# Altium footprint library Connector_PinSocket_1.27mm.PcbLib: 246 footprints (part 9 of 16)
Each footprint in its own frame and in the unit in brackets; x right, y up, seen from the top. Pads: shape width x height; smd on the part's side, far side on the other; paste and mask are expansions set on the pad; w line width, h text height; cw(c..) or ccw(c..) is an arc to the next point about the centre after c.
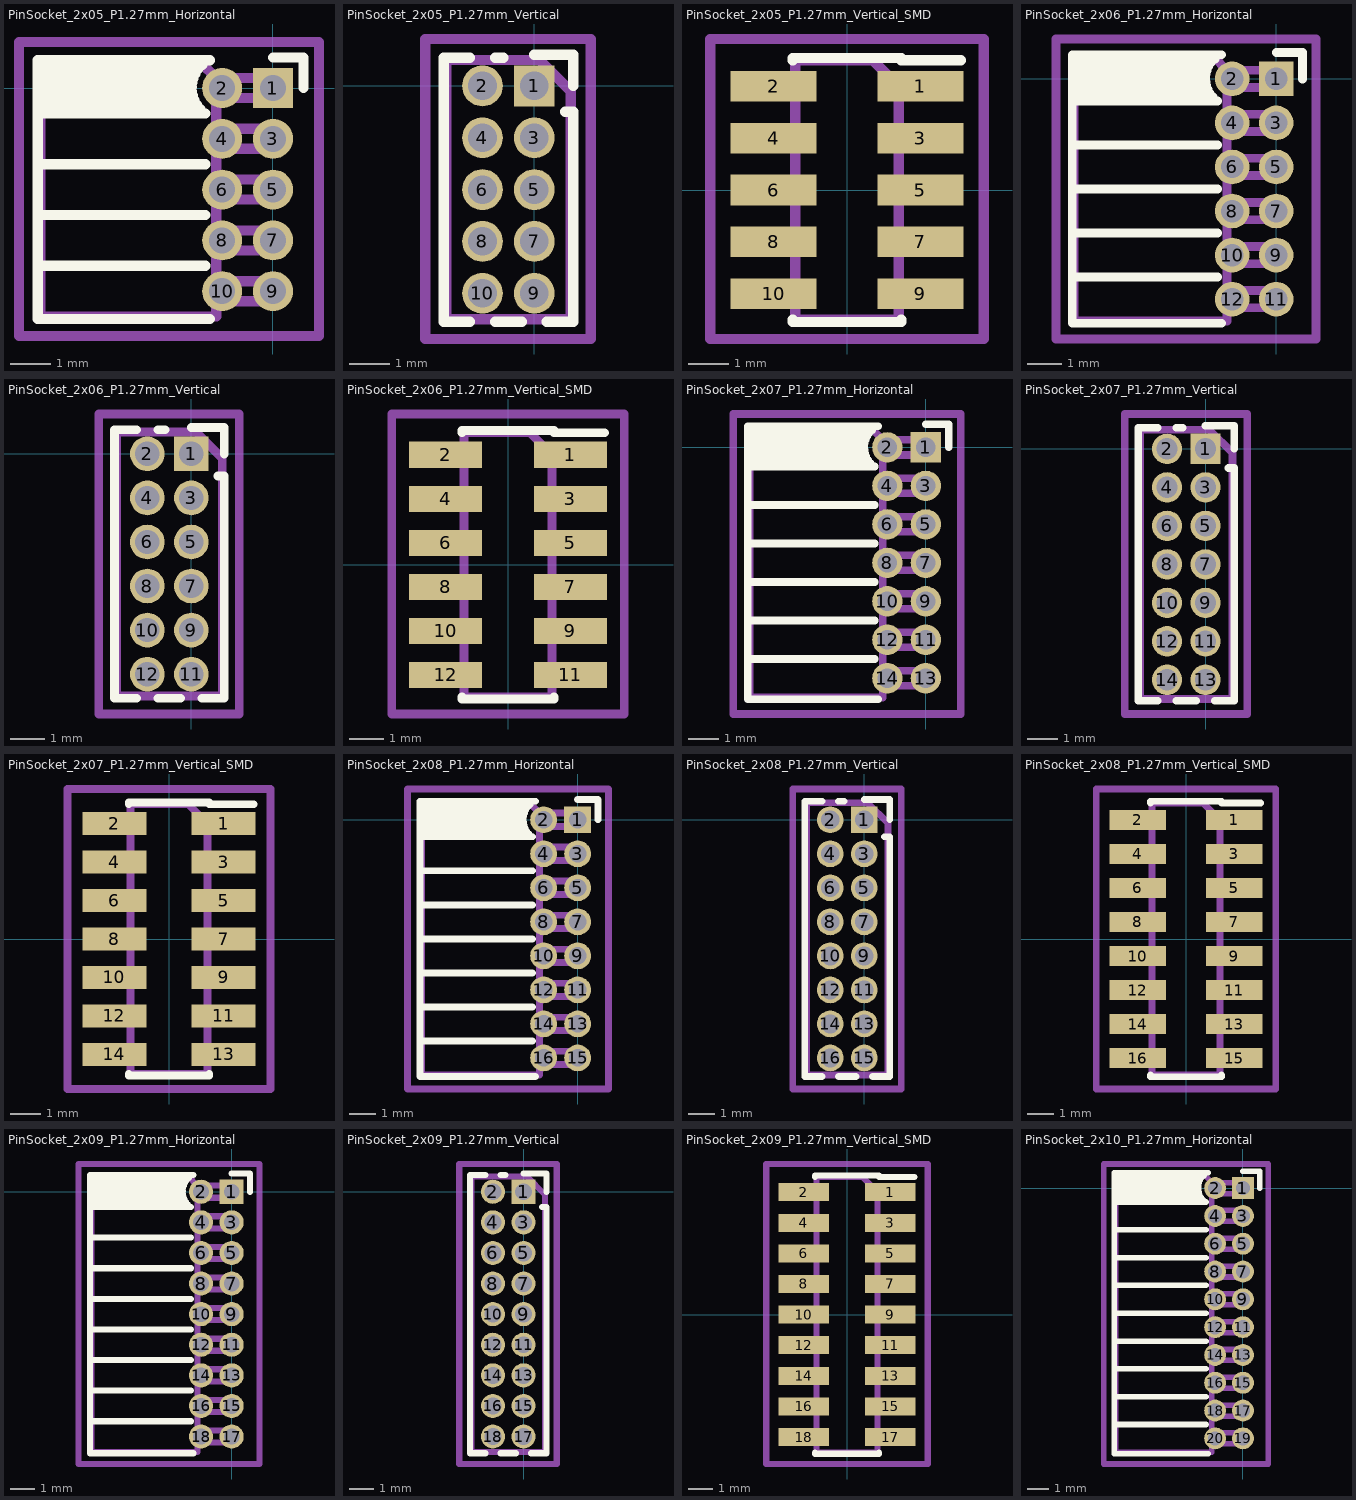
[diagram p8: the footprints below, top view; thin cyan lines are the x and y axes]

## PinSocket_2x05_P1.27mm_Horizontal [mm]
pads (10):
  rect 1x1 hole 0.65: 1(0,0)
  round 1 hole 0.65: 2(-1.27,0) 3(0,-1.27) 4(-1.27,-1.27) 5(0,-2.54) 6(-1.27,-2.54) 7(0,-3.81) 8(-1.27,-3.81) 9(0,-5.08) 10(-1.27,-5.08)
F.SilkS:
  lines w0.254: -5.88,-4.445 -1.688,-4.445 ; -5.88,-3.175 -1.688,-3.175 ; -5.88,-1.905 -1.688,-1.905 ; -5.88,-0.635 -1.688,-0.635 ; -5.88,-0.525 -1.82,-0.525 ; -5.88,-0.415 -1.907,-0.415 ; -5.88,-0.305 -1.966,-0.305 ; -5.88,-0.195 -2.005,-0.195 ; -5.88,-0.085 -2.025,-0.085 ; -5.88,0.025 -2.03,0.025 ; -5.88,0.135 -2.018,0.135 ; -5.88,0.245 -1.989,0.245 ; -5.88,0.355 -1.942,0.355 ; -5.88,0.465 -1.871,0.465 ; -5.88,0.575 -1.767,0.575 ; -1.578,-5.775 -5.88,-5.775 -5.88,0.695 -1.578,0.695 ; 0,0.76 0.76,0.76 0.76,0
Top Assembly:
  lines w0.254: -1.42,-5.33 0,-5.33 0,-4.83 -1.42,-4.83 ; -1.42,-4.06 0,-4.06 0,-3.56 -1.42,-3.56 ; -1.42,-2.79 0,-2.79 0,-2.29 -1.42,-2.29 ; -1.42,-1.52 0,-1.52 0,-1.02 -1.42,-1.02 ; -1.42,-0.25 0,-0.25 0,0.25 -1.42,0.25 ; -1.42,0.25 -1.42,-5.715 -5.82,-5.715 -5.82,0.635 -1.805,0.635 -1.42,0.25
  text "'.Designator'" at -2.78,-6.587 h1
Top Courtyard:
  lines w0.254: -6.35,-6.2 1.15,-6.2 1.15,1.15 -6.35,1.15 -6.35,-6.2
Top Designator:
  text ".Designator" at -10.218,-3.198 h1.52

## PinSocket_2x05_P1.27mm_Vertical [mm]
pads (10):
  rect 1x1 hole 0.7: 1(0,0)
  round 1 hole 0.7: 2(-1.27,0) 3(0,-1.27) 4(-1.27,-1.27) 5(0,-2.54) 6(-1.27,-2.54) 7(0,-3.81) 8(-1.27,-3.81) 9(0,-5.08) 10(-1.27,-5.08)
F.SilkS:
  lines w0.254: -1.578,-5.775 -2.22,-5.775 -2.22,0.695 -1.578,0.695 ; -0.962,-5.775 -0.308,-5.775 ; -0.962,0.695 -0.76,0.695 ; 0,0.76 0.95,0.76 0.95,0 ; 0.308,-5.775 0.95,-5.775 0.95,-0.635 0.76,-0.635
Top Assembly:
  lines w0.254: -2.16,-5.715 0.89,-5.715 0.89,-0.128 0.128,0.635 -2.16,0.635 -2.16,-5.715
  text "'.Designator'" at 0.205,-6.587 h1
Top Courtyard:
  lines w0.254: -2.67,-6.2 1.38,-6.2 1.38,1.15 -2.67,1.15 -2.67,-6.2
Top Designator:
  text ".Designator" at -8.263,-3.198 h1.52

## PinSocket_2x05_P1.27mm_Vertical_SMD [mm]
pads (10):
  rect 2.1x0.75 smd: 1(1.8,2.54) 2(-1.8,2.54) 3(1.8,1.27) 4(-1.8,1.27) 5(1.8,0) 6(-1.8,0) 7(1.8,-1.27) 8(-1.8,-1.27) 9(1.8,-2.54) 10(-1.8,-2.54)
F.SilkS:
  lines w0.254: -1.33,-3.175 -1.33,-3.235 1.33,-3.235 1.33,-3.175 ; -1.33,3.175 -1.33,3.235 1.33,3.235 1.33,3.175 2.79,3.175
Top Assembly:
  lines w0.254: -1.27,-2.74 -2.555,-2.74 -2.555,-2.34 -1.27,-2.34 ; -1.27,-1.47 -2.555,-1.47 -2.555,-1.07 -1.27,-1.07 ; -1.27,-0.2 -2.555,-0.2 -2.555,0.2 -1.27,0.2 ; -1.27,1.07 -2.555,1.07 -2.555,1.47 -1.27,1.47 ; -1.27,2.34 -2.555,2.34 -2.555,2.74 -1.27,2.74 ; 1.27,-2.74 2.555,-2.74 2.555,-2.34 1.27,-2.34 ; 1.27,-1.47 2.555,-1.47 2.555,-1.07 1.27,-1.07 ; 1.27,-0.2 2.555,-0.2 2.555,0.2 1.27,0.2 ; 1.27,1.07 2.555,1.07 2.555,1.47 1.27,1.47 ; 1.27,2.34 2.555,2.34 2.555,2.74 1.27,2.74 ; -1.27,-3.175 1.27,-3.175 1.27,2.54 0.635,3.175 -1.27,3.175 -1.27,-3.175
  text "'.Designator'" at 0.84,-4.047 h1
Top Courtyard:
  lines w0.254: -3.35,-3.65 3.35,-3.65 3.35,3.7 -3.35,3.7 -3.35,-3.65
Top Designator:
  text ".Designator" at -7.618,-0.658 h1.52

## PinSocket_2x06_P1.27mm_Horizontal [mm]
pads (12):
  rect 1x1 hole 0.65: 1(0,0)
  round 1 hole 0.65: 2(-1.27,0) 3(0,-1.27) 4(-1.27,-1.27) 5(0,-2.54) 6(-1.27,-2.54) 7(0,-3.81) 8(-1.27,-3.81) 9(0,-5.08) 10(-1.27,-5.08) 11(0,-6.35) 12(-1.27,-6.35)
F.SilkS:
  lines w0.254: -5.88,-5.715 -1.688,-5.715 ; -5.88,-4.445 -1.688,-4.445 ; -5.88,-3.175 -1.688,-3.175 ; -5.88,-1.905 -1.688,-1.905 ; -5.88,-0.635 -1.688,-0.635 ; -5.88,-0.525 -1.82,-0.525 ; -5.88,-0.415 -1.907,-0.415 ; -5.88,-0.305 -1.966,-0.305 ; -5.88,-0.195 -2.005,-0.195 ; -5.88,-0.085 -2.025,-0.085 ; -5.88,0.025 -2.03,0.025 ; -5.88,0.135 -2.018,0.135 ; -5.88,0.245 -1.989,0.245 ; -5.88,0.355 -1.942,0.355 ; -5.88,0.465 -1.871,0.465 ; -5.88,0.575 -1.767,0.575 ; -1.578,-7.045 -5.88,-7.045 -5.88,0.695 -1.578,0.695 ; 0,0.76 0.76,0.76 0.76,0
Top Assembly:
  lines w0.254: -1.42,-6.6 0,-6.6 0,-6.1 -1.42,-6.1 ; -1.42,-5.33 0,-5.33 0,-4.83 -1.42,-4.83 ; -1.42,-4.06 0,-4.06 0,-3.56 -1.42,-3.56 ; -1.42,-2.79 0,-2.79 0,-2.29 -1.42,-2.29 ; -1.42,-1.52 0,-1.52 0,-1.02 -1.42,-1.02 ; -1.42,-0.25 0,-0.25 0,0.25 -1.42,0.25 ; -1.42,0.25 -1.42,-6.985 -5.82,-6.985 -5.82,0.635 -1.805,0.635 -1.42,0.25
  text "'.Designator'" at -2.78,-7.222 h1
Top Courtyard:
  lines w0.254: -6.35,-7.5 1.15,-7.5 1.15,1.15 -6.35,1.15 -6.35,-7.5
Top Designator:
  text ".Designator" at -10.218,-3.683 h1.52

## PinSocket_2x06_P1.27mm_Vertical [mm]
pads (12):
  rect 1x1 hole 0.7: 1(0,0)
  round 1 hole 0.7: 2(-1.27,0) 3(0,-1.27) 4(-1.27,-1.27) 5(0,-2.54) 6(-1.27,-2.54) 7(0,-3.81) 8(-1.27,-3.81) 9(0,-5.08) 10(-1.27,-5.08) 11(0,-6.35) 12(-1.27,-6.35)
F.SilkS:
  lines w0.254: -1.578,-7.045 -2.22,-7.045 -2.22,0.695 -1.578,0.695 ; -0.962,-7.045 -0.308,-7.045 ; -0.962,0.695 -0.76,0.695 ; 0,0.76 0.95,0.76 0.95,0 ; 0.308,-7.045 0.95,-7.045 0.95,-0.635 0.76,-0.635
Top Assembly:
  lines w0.254: -2.16,-6.985 0.89,-6.985 0.89,-0.128 0.128,0.635 -2.16,0.635 -2.16,-6.985
  text "'.Designator'" at 0.205,-7.222 h1
Top Courtyard:
  lines w0.254: -2.67,-7.5 1.38,-7.5 1.38,1.15 -2.67,1.15 -2.67,-7.5
Top Designator:
  text ".Designator" at -8.263,-3.683 h1.52

## PinSocket_2x06_P1.27mm_Vertical_SMD [mm]
pads (12):
  rect 2.1x0.75 smd: 1(1.8,3.175) 2(-1.8,3.175) 3(1.8,1.905) 4(-1.8,1.905) 5(1.8,0.635) 6(-1.8,0.635) 7(1.8,-0.635) 8(-1.8,-0.635) 9(1.8,-1.905) 10(-1.8,-1.905) 11(1.8,-3.175) 12(-1.8,-3.175)
F.SilkS:
  lines w0.254: -1.33,-3.81 -1.33,-3.87 1.33,-3.87 1.33,-3.81 ; -1.33,3.81 -1.33,3.87 1.33,3.87 1.33,3.81 2.79,3.81
Top Assembly:
  lines w0.254: -1.27,-3.375 -2.555,-3.375 -2.555,-2.975 -1.27,-2.975 ; -1.27,-2.105 -2.555,-2.105 -2.555,-1.705 -1.27,-1.705 ; -1.27,-0.835 -2.555,-0.835 -2.555,-0.435 -1.27,-0.435 ; -1.27,0.435 -2.555,0.435 -2.555,0.835 -1.27,0.835 ; -1.27,1.705 -2.555,1.705 -2.555,2.105 -1.27,2.105 ; -1.27,2.975 -2.555,2.975 -2.555,3.375 -1.27,3.375 ; 1.27,-3.375 2.555,-3.375 2.555,-2.975 1.27,-2.975 ; 1.27,-2.105 2.555,-2.105 2.555,-1.705 1.27,-1.705 ; 1.27,-0.835 2.555,-0.835 2.555,-0.435 1.27,-0.435 ; 1.27,0.435 2.555,0.435 2.555,0.835 1.27,0.835 ; 1.27,1.705 2.555,1.705 2.555,2.105 1.27,2.105 ; 1.27,2.975 2.555,2.975 2.555,3.375 1.27,3.375 ; -1.27,-3.81 1.27,-3.81 1.27,3.175 0.635,3.81 -1.27,3.81 -1.27,-3.81
  text "'.Designator'" at 0.84,-4.047 h1
Top Courtyard:
  lines w0.254: -3.35,-4.3 3.35,-4.3 3.35,4.35 -3.35,4.35 -3.35,-4.3
Top Designator:
  text ".Designator" at -7.618,-0.483 h1.52

## PinSocket_2x07_P1.27mm_Horizontal [mm]
pads (14):
  rect 1x1 hole 0.65: 1(0,0)
  round 1 hole 0.65: 2(-1.27,0) 3(0,-1.27) 4(-1.27,-1.27) 5(0,-2.54) 6(-1.27,-2.54) 7(0,-3.81) 8(-1.27,-3.81) 9(0,-5.08) 10(-1.27,-5.08) 11(0,-6.35) 12(-1.27,-6.35) 13(0,-7.62) 14(-1.27,-7.62)
F.SilkS:
  lines w0.254: -5.88,-6.985 -1.688,-6.985 ; -5.88,-5.715 -1.688,-5.715 ; -5.88,-4.445 -1.688,-4.445 ; -5.88,-3.175 -1.688,-3.175 ; -5.88,-1.905 -1.688,-1.905 ; -5.88,-0.635 -1.688,-0.635 ; -5.88,-0.525 -1.82,-0.525 ; -5.88,-0.415 -1.907,-0.415 ; -5.88,-0.305 -1.966,-0.305 ; -5.88,-0.195 -2.005,-0.195 ; -5.88,-0.085 -2.025,-0.085 ; -5.88,0.025 -2.03,0.025 ; -5.88,0.135 -2.018,0.135 ; -5.88,0.245 -1.989,0.245 ; -5.88,0.355 -1.942,0.355 ; -5.88,0.465 -1.871,0.465 ; -5.88,0.575 -1.767,0.575 ; -1.578,-8.315 -5.88,-8.315 -5.88,0.695 -1.578,0.695 ; 0,0.76 0.76,0.76 0.76,0
Top Assembly:
  lines w0.254: -1.42,-7.87 0,-7.87 0,-7.37 -1.42,-7.37 ; -1.42,-6.6 0,-6.6 0,-6.1 -1.42,-6.1 ; -1.42,-5.33 0,-5.33 0,-4.83 -1.42,-4.83 ; -1.42,-4.06 0,-4.06 0,-3.56 -1.42,-3.56 ; -1.42,-2.79 0,-2.79 0,-2.29 -1.42,-2.29 ; -1.42,-1.52 0,-1.52 0,-1.02 -1.42,-1.02 ; -1.42,-0.25 0,-0.25 0,0.25 -1.42,0.25 ; -1.42,0.25 -1.42,-8.255 -5.82,-8.255 -5.82,0.635 -1.805,0.635 -1.42,0.25
  text "'.Designator'" at -2.78,-7.857 h1
Top Courtyard:
  lines w0.254: -6.35,-8.8 1.15,-8.8 1.15,1.1 -6.35,1.1 -6.35,-8.8
Top Designator:
  text ".Designator" at -10.218,-4.358 h1.52

## PinSocket_2x07_P1.27mm_Vertical [mm]
pads (14):
  rect 1x1 hole 0.7: 1(0,0)
  round 1 hole 0.7: 2(-1.27,0) 3(0,-1.27) 4(-1.27,-1.27) 5(0,-2.54) 6(-1.27,-2.54) 7(0,-3.81) 8(-1.27,-3.81) 9(0,-5.08) 10(-1.27,-5.08) 11(0,-6.35) 12(-1.27,-6.35) 13(0,-7.62) 14(-1.27,-7.62)
F.SilkS:
  lines w0.254: -1.578,-8.315 -2.22,-8.315 -2.22,0.695 -1.578,0.695 ; -0.962,-8.315 -0.308,-8.315 ; -0.962,0.695 -0.76,0.695 ; 0,0.76 0.95,0.76 0.95,0 ; 0.308,-8.315 0.95,-8.315 0.95,-0.635 0.76,-0.635
Top Assembly:
  lines w0.254: -2.16,-8.255 0.89,-8.255 0.89,-0.128 0.128,0.635 -2.16,0.635 -2.16,-8.255
  text "'.Designator'" at 0.205,-7.857 h1
Top Courtyard:
  lines w0.254: -2.67,-8.75 1.38,-8.75 1.38,1.15 -2.67,1.15 -2.67,-8.75
Top Designator:
  text ".Designator" at -8.263,-4.308 h1.52

## PinSocket_2x07_P1.27mm_Vertical_SMD [mm]
pads (14):
  rect 2.1x0.75 smd: 1(1.8,3.81) 2(-1.8,3.81) 3(1.8,2.54) 4(-1.8,2.54) 5(1.8,1.27) 6(-1.8,1.27) 7(1.8,0) 8(-1.8,0) 9(1.8,-1.27) 10(-1.8,-1.27) 11(1.8,-2.54) 12(-1.8,-2.54) 13(1.8,-3.81) 14(-1.8,-3.81)
F.SilkS:
  lines w0.254: -1.33,-4.445 -1.33,-4.505 1.33,-4.505 1.33,-4.445 ; -1.33,4.445 -1.33,4.505 1.33,4.505 1.33,4.445 2.79,4.445
Top Assembly:
  lines w0.254: -1.27,-4.01 -2.555,-4.01 -2.555,-3.61 -1.27,-3.61 ; -1.27,-2.74 -2.555,-2.74 -2.555,-2.34 -1.27,-2.34 ; -1.27,-1.47 -2.555,-1.47 -2.555,-1.07 -1.27,-1.07 ; -1.27,-0.2 -2.555,-0.2 -2.555,0.2 -1.27,0.2 ; -1.27,1.07 -2.555,1.07 -2.555,1.47 -1.27,1.47 ; -1.27,2.34 -2.555,2.34 -2.555,2.74 -1.27,2.74 ; -1.27,3.61 -2.555,3.61 -2.555,4.01 -1.27,4.01 ; 1.27,-4.01 2.555,-4.01 2.555,-3.61 1.27,-3.61 ; 1.27,-2.74 2.555,-2.74 2.555,-2.34 1.27,-2.34 ; 1.27,-1.47 2.555,-1.47 2.555,-1.07 1.27,-1.07 ; 1.27,-0.2 2.555,-0.2 2.555,0.2 1.27,0.2 ; 1.27,1.07 2.555,1.07 2.555,1.47 1.27,1.47 ; 1.27,2.34 2.555,2.34 2.555,2.74 1.27,2.74 ; 1.27,3.61 2.555,3.61 2.555,4.01 1.27,4.01 ; -1.27,-4.445 1.27,-4.445 1.27,3.81 0.635,4.445 -1.27,4.445 -1.27,-4.445
  text "'.Designator'" at 0.84,-4.047 h1
Top Courtyard:
  lines w0.254: -3.35,-4.95 3.35,-4.95 3.35,4.95 -3.35,4.95 -3.35,-4.95
Top Designator:
  text ".Designator" at -7.618,-0.508 h1.52

## PinSocket_2x08_P1.27mm_Horizontal [mm]
pads (16):
  rect 1x1 hole 0.65: 1(0,0)
  round 1 hole 0.65: 2(-1.27,0) 3(0,-1.27) 4(-1.27,-1.27) 5(0,-2.54) 6(-1.27,-2.54) 7(0,-3.81) 8(-1.27,-3.81) 9(0,-5.08) 10(-1.27,-5.08) 11(0,-6.35) 12(-1.27,-6.35) 13(0,-7.62) 14(-1.27,-7.62) 15(0,-8.89) 16(-1.27,-8.89)
F.SilkS:
  lines w0.254: -5.88,-8.255 -1.688,-8.255 ; -5.88,-6.985 -1.688,-6.985 ; -5.88,-5.715 -1.688,-5.715 ; -5.88,-4.445 -1.688,-4.445 ; -5.88,-3.175 -1.688,-3.175 ; -5.88,-1.905 -1.688,-1.905 ; -5.88,-0.635 -1.688,-0.635 ; -5.88,-0.525 -1.82,-0.525 ; -5.88,-0.415 -1.907,-0.415 ; -5.88,-0.305 -1.966,-0.305 ; -5.88,-0.195 -2.005,-0.195 ; -5.88,-0.085 -2.025,-0.085 ; -5.88,0.025 -2.03,0.025 ; -5.88,0.135 -2.018,0.135 ; -5.88,0.245 -1.989,0.245 ; -5.88,0.355 -1.942,0.355 ; -5.88,0.465 -1.871,0.465 ; -5.88,0.575 -1.767,0.575 ; -1.578,-9.585 -5.88,-9.585 -5.88,0.695 -1.578,0.695 ; 0,0.76 0.76,0.76 0.76,0
Top Assembly:
  lines w0.254: -1.42,-9.14 0,-9.14 0,-8.64 -1.42,-8.64 ; -1.42,-7.87 0,-7.87 0,-7.37 -1.42,-7.37 ; -1.42,-6.6 0,-6.6 0,-6.1 -1.42,-6.1 ; -1.42,-5.33 0,-5.33 0,-4.83 -1.42,-4.83 ; -1.42,-4.06 0,-4.06 0,-3.56 -1.42,-3.56 ; -1.42,-2.79 0,-2.79 0,-2.29 -1.42,-2.29 ; -1.42,-1.52 0,-1.52 0,-1.02 -1.42,-1.02 ; -1.42,-0.25 0,-0.25 0,0.25 -1.42,0.25 ; -1.42,0.25 -1.42,-9.525 -5.82,-9.525 -5.82,0.635 -1.805,0.635 -1.42,0.25
  text "'.Designator'" at -2.78,-8.492 h1
Top Courtyard:
  lines w0.254: -6.35,-10.05 1.15,-10.05 1.15,1.15 -6.35,1.15 -6.35,-10.05
Top Designator:
  text ".Designator" at -10.218,-4.958 h1.52

## PinSocket_2x08_P1.27mm_Vertical [mm]
pads (16):
  rect 1x1 hole 0.7: 1(0,0)
  round 1 hole 0.7: 2(-1.27,0) 3(0,-1.27) 4(-1.27,-1.27) 5(0,-2.54) 6(-1.27,-2.54) 7(0,-3.81) 8(-1.27,-3.81) 9(0,-5.08) 10(-1.27,-5.08) 11(0,-6.35) 12(-1.27,-6.35) 13(0,-7.62) 14(-1.27,-7.62) 15(0,-8.89) 16(-1.27,-8.89)
F.SilkS:
  lines w0.254: -1.578,-9.585 -2.22,-9.585 -2.22,0.695 -1.578,0.695 ; -0.962,-9.585 -0.308,-9.585 ; -0.962,0.695 -0.76,0.695 ; 0,0.76 0.95,0.76 0.95,0 ; 0.308,-9.585 0.95,-9.585 0.95,-0.635 0.76,-0.635
Top Assembly:
  lines w0.254: -2.16,-9.525 0.89,-9.525 0.89,-0.128 0.128,0.635 -2.16,0.635 -2.16,-9.525
  text "'.Designator'" at 0.205,-8.492 h1
Top Courtyard:
  lines w0.254: -2.67,-10.05 1.38,-10.05 1.38,1.15 -2.67,1.15 -2.67,-10.05
Top Designator:
  text ".Designator" at -8.263,-4.958 h1.52

## PinSocket_2x08_P1.27mm_Vertical_SMD [mm]
pads (16):
  rect 2.1x0.75 smd: 1(1.8,4.445) 2(-1.8,4.445) 3(1.8,3.175) 4(-1.8,3.175) 5(1.8,1.905) 6(-1.8,1.905) 7(1.8,0.635) 8(-1.8,0.635) 9(1.8,-0.635) 10(-1.8,-0.635) 11(1.8,-1.905) 12(-1.8,-1.905) 13(1.8,-3.175) 14(-1.8,-3.175) 15(1.8,-4.445) 16(-1.8,-4.445)
F.SilkS:
  lines w0.254: -1.33,-5.08 -1.33,-5.14 1.33,-5.14 1.33,-5.08 ; -1.33,5.08 -1.33,5.14 1.33,5.14 1.33,5.08 2.79,5.08
Top Assembly:
  lines w0.254: -1.27,-4.645 -2.555,-4.645 -2.555,-4.245 -1.27,-4.245 ; -1.27,-3.375 -2.555,-3.375 -2.555,-2.975 -1.27,-2.975 ; -1.27,-2.105 -2.555,-2.105 -2.555,-1.705 -1.27,-1.705 ; -1.27,-0.835 -2.555,-0.835 -2.555,-0.435 -1.27,-0.435 ; -1.27,0.435 -2.555,0.435 -2.555,0.835 -1.27,0.835 ; -1.27,1.705 -2.555,1.705 -2.555,2.105 -1.27,2.105 ; -1.27,2.975 -2.555,2.975 -2.555,3.375 -1.27,3.375 ; -1.27,4.245 -2.555,4.245 -2.555,4.645 -1.27,4.645 ; 1.27,-4.645 2.555,-4.645 2.555,-4.245 1.27,-4.245 ; 1.27,-3.375 2.555,-3.375 2.555,-2.975 1.27,-2.975 ; 1.27,-2.105 2.555,-2.105 2.555,-1.705 1.27,-1.705 ; 1.27,-0.835 2.555,-0.835 2.555,-0.435 1.27,-0.435 ; 1.27,0.435 2.555,0.435 2.555,0.835 1.27,0.835 ; 1.27,1.705 2.555,1.705 2.555,2.105 1.27,2.105 ; 1.27,2.975 2.555,2.975 2.555,3.375 1.27,3.375 ; 1.27,4.245 2.555,4.245 2.555,4.645 1.27,4.645 ; -1.27,-5.08 1.27,-5.08 1.27,4.445 0.635,5.08 -1.27,5.08 -1.27,-5.08
  text "'.Designator'" at 0.84,-4.047 h1
Top Courtyard:
  lines w0.254: -3.35,-5.6 3.35,-5.6 3.35,5.6 -3.35,5.6 -3.35,-5.6
Top Designator:
  text ".Designator" at -7.618,-0.508 h1.52

## PinSocket_2x09_P1.27mm_Horizontal [mm]
pads (18):
  rect 1x1 hole 0.65: 1(0,0)
  round 1 hole 0.65: 2(-1.27,0) 3(0,-1.27) 4(-1.27,-1.27) 5(0,-2.54) 6(-1.27,-2.54) 7(0,-3.81) 8(-1.27,-3.81) 9(0,-5.08) 10(-1.27,-5.08) 11(0,-6.35) 12(-1.27,-6.35) 13(0,-7.62) 14(-1.27,-7.62) 15(0,-8.89) 16(-1.27,-8.89) 17(0,-10.16) 18(-1.27,-10.16)
F.SilkS:
  lines w0.254: -5.88,-9.525 -1.688,-9.525 ; -5.88,-8.255 -1.688,-8.255 ; -5.88,-6.985 -1.688,-6.985 ; -5.88,-5.715 -1.688,-5.715 ; -5.88,-4.445 -1.688,-4.445 ; -5.88,-3.175 -1.688,-3.175 ; -5.88,-1.905 -1.688,-1.905 ; -5.88,-0.635 -1.688,-0.635 ; -5.88,-0.525 -1.82,-0.525 ; -5.88,-0.415 -1.907,-0.415 ; -5.88,-0.305 -1.966,-0.305 ; -5.88,-0.195 -2.005,-0.195 ; -5.88,-0.085 -2.025,-0.085 ; -5.88,0.025 -2.03,0.025 ; -5.88,0.135 -2.018,0.135 ; -5.88,0.245 -1.989,0.245 ; -5.88,0.355 -1.942,0.355 ; -5.88,0.465 -1.871,0.465 ; -5.88,0.575 -1.767,0.575 ; -1.578,-10.855 -5.88,-10.855 -5.88,0.695 -1.578,0.695 ; 0,0.76 0.76,0.76 0.76,0
Top Assembly:
  lines w0.254: -1.42,-10.41 0,-10.41 0,-9.91 -1.42,-9.91 ; -1.42,-9.14 0,-9.14 0,-8.64 -1.42,-8.64 ; -1.42,-7.87 0,-7.87 0,-7.37 -1.42,-7.37 ; -1.42,-6.6 0,-6.6 0,-6.1 -1.42,-6.1 ; -1.42,-5.33 0,-5.33 0,-4.83 -1.42,-4.83 ; -1.42,-4.06 0,-4.06 0,-3.56 -1.42,-3.56 ; -1.42,-2.79 0,-2.79 0,-2.29 -1.42,-2.29 ; -1.42,-1.52 0,-1.52 0,-1.02 -1.42,-1.02 ; -1.42,-0.25 0,-0.25 0,0.25 -1.42,0.25 ; -1.42,0.25 -1.42,-10.795 -5.82,-10.795 -5.82,0.635 -1.805,0.635 -1.42,0.25
  text "'.Designator'" at -2.78,-9.127 h1
Top Courtyard:
  lines w0.254: -6.35,-11.3 1.15,-11.3 1.15,1.15 -6.35,1.15 -6.35,-11.3
Top Designator:
  text ".Designator" at -10.218,-5.583 h1.52

## PinSocket_2x09_P1.27mm_Vertical [mm]
pads (18):
  rect 1x1 hole 0.7: 1(0,0)
  round 1 hole 0.7: 2(-1.27,0) 3(0,-1.27) 4(-1.27,-1.27) 5(0,-2.54) 6(-1.27,-2.54) 7(0,-3.81) 8(-1.27,-3.81) 9(0,-5.08) 10(-1.27,-5.08) 11(0,-6.35) 12(-1.27,-6.35) 13(0,-7.62) 14(-1.27,-7.62) 15(0,-8.89) 16(-1.27,-8.89) 17(0,-10.16) 18(-1.27,-10.16)
F.SilkS:
  lines w0.254: -1.578,-10.855 -2.22,-10.855 -2.22,0.695 -1.578,0.695 ; -0.962,-10.855 -0.308,-10.855 ; -0.962,0.695 -0.76,0.695 ; 0,0.76 0.95,0.76 0.95,0 ; 0.308,-10.855 0.95,-10.855 0.95,-0.635 0.76,-0.635
Top Assembly:
  lines w0.254: -2.16,-10.795 0.89,-10.795 0.89,-0.128 0.128,0.635 -2.16,0.635 -2.16,-10.795
  text "'.Designator'" at 0.205,-9.127 h1
Top Courtyard:
  lines w0.254: -2.67,-11.3 1.38,-11.3 1.38,1.15 -2.67,1.15 -2.67,-11.3
Top Designator:
  text ".Designator" at -8.263,-5.583 h1.52

## PinSocket_2x09_P1.27mm_Vertical_SMD [mm]
pads (18):
  rect 2.1x0.75 smd: 1(1.8,5.08) 2(-1.8,5.08) 3(1.8,3.81) 4(-1.8,3.81) 5(1.8,2.54) 6(-1.8,2.54) 7(1.8,1.27) 8(-1.8,1.27) 9(1.8,0) 10(-1.8,0) 11(1.8,-1.27) 12(-1.8,-1.27) 13(1.8,-2.54) 14(-1.8,-2.54) 15(1.8,-3.81) 16(-1.8,-3.81) 17(1.8,-5.08) 18(-1.8,-5.08)
F.SilkS:
  lines w0.254: -1.33,-5.715 -1.33,-5.775 1.33,-5.775 1.33,-5.715 ; -1.33,5.715 -1.33,5.775 1.33,5.775 1.33,5.715 2.79,5.715
Top Assembly:
  lines w0.254: -1.27,-5.28 -2.555,-5.28 -2.555,-4.88 -1.27,-4.88 ; -1.27,-4.01 -2.555,-4.01 -2.555,-3.61 -1.27,-3.61 ; -1.27,-2.74 -2.555,-2.74 -2.555,-2.34 -1.27,-2.34 ; -1.27,-1.47 -2.555,-1.47 -2.555,-1.07 -1.27,-1.07 ; -1.27,-0.2 -2.555,-0.2 -2.555,0.2 -1.27,0.2 ; -1.27,1.07 -2.555,1.07 -2.555,1.47 -1.27,1.47 ; -1.27,2.34 -2.555,2.34 -2.555,2.74 -1.27,2.74 ; -1.27,3.61 -2.555,3.61 -2.555,4.01 -1.27,4.01 ; -1.27,4.88 -2.555,4.88 -2.555,5.28 -1.27,5.28 ; 1.27,-5.28 2.555,-5.28 2.555,-4.88 1.27,-4.88 ; 1.27,-4.01 2.555,-4.01 2.555,-3.61 1.27,-3.61 ; 1.27,-2.74 2.555,-2.74 2.555,-2.34 1.27,-2.34 ; 1.27,-1.47 2.555,-1.47 2.555,-1.07 1.27,-1.07 ; 1.27,-0.2 2.555,-0.2 2.555,0.2 1.27,0.2 ; 1.27,1.07 2.555,1.07 2.555,1.47 1.27,1.47 ; 1.27,2.34 2.555,2.34 2.555,2.74 1.27,2.74 ; 1.27,3.61 2.555,3.61 2.555,4.01 1.27,4.01 ; 1.27,4.88 2.555,4.88 2.555,5.28 1.27,5.28 ; -1.27,-5.715 1.27,-5.715 1.27,5.08 0.635,5.715 -1.27,5.715 -1.27,-5.715
  text "'.Designator'" at 0.84,-4.047 h1
Top Courtyard:
  lines w0.254: -3.35,-6.2 3.35,-6.2 3.35,6.25 -3.35,6.25 -3.35,-6.2
Top Designator:
  text ".Designator" at -7.618,-0.483 h1.52

## PinSocket_2x10_P1.27mm_Horizontal [mm]
pads (20):
  rect 1x1 hole 0.65: 1(0,0)
  round 1 hole 0.65: 2(-1.27,0) 3(0,-1.27) 4(-1.27,-1.27) 5(0,-2.54) 6(-1.27,-2.54) 7(0,-3.81) 8(-1.27,-3.81) 9(0,-5.08) 10(-1.27,-5.08) 11(0,-6.35) 12(-1.27,-6.35) 13(0,-7.62) 14(-1.27,-7.62) 15(0,-8.89) 16(-1.27,-8.89) 17(0,-10.16) 18(-1.27,-10.16) 19(0,-11.43) 20(-1.27,-11.43)
F.SilkS:
  lines w0.254: -5.88,-10.795 -1.688,-10.795 ; -5.88,-9.525 -1.688,-9.525 ; -5.88,-8.255 -1.688,-8.255 ; -5.88,-6.985 -1.688,-6.985 ; -5.88,-5.715 -1.688,-5.715 ; -5.88,-4.445 -1.688,-4.445 ; -5.88,-3.175 -1.688,-3.175 ; -5.88,-1.905 -1.688,-1.905 ; -5.88,-0.635 -1.688,-0.635 ; -5.88,-0.525 -1.82,-0.525 ; -5.88,-0.415 -1.907,-0.415 ; -5.88,-0.305 -1.966,-0.305 ; -5.88,-0.195 -2.005,-0.195 ; -5.88,-0.085 -2.025,-0.085 ; -5.88,0.025 -2.03,0.025 ; -5.88,0.135 -2.018,0.135 ; -5.88,0.245 -1.989,0.245 ; -5.88,0.355 -1.942,0.355 ; -5.88,0.465 -1.871,0.465 ; -5.88,0.575 -1.767,0.575 ; -1.578,-12.125 -5.88,-12.125 -5.88,0.695 -1.578,0.695 ; 0,0.76 0.76,0.76 0.76,0
Top Assembly:
  lines w0.254: -1.42,-11.68 0,-11.68 0,-11.18 -1.42,-11.18 ; -1.42,-10.41 0,-10.41 0,-9.91 -1.42,-9.91 ; -1.42,-9.14 0,-9.14 0,-8.64 -1.42,-8.64 ; -1.42,-7.87 0,-7.87 0,-7.37 -1.42,-7.37 ; -1.42,-6.6 0,-6.6 0,-6.1 -1.42,-6.1 ; -1.42,-5.33 0,-5.33 0,-4.83 -1.42,-4.83 ; -1.42,-4.06 0,-4.06 0,-3.56 -1.42,-3.56 ; -1.42,-2.79 0,-2.79 0,-2.29 -1.42,-2.29 ; -1.42,-1.52 0,-1.52 0,-1.02 -1.42,-1.02 ; -1.42,-0.25 0,-0.25 0,0.25 -1.42,0.25 ; -1.42,0.25 -1.42,-12.065 -5.82,-12.065 -5.82,0.635 -1.805,0.635 -1.42,0.25
  text "'.Designator'" at -2.78,-9.762 h1
Top Courtyard:
  lines w0.254: -6.35,-12.6 1.15,-12.6 1.15,1.1 -6.35,1.1 -6.35,-12.6
Top Designator:
  text ".Designator" at -10.218,-6.258 h1.52